# EAGLE library part RPI-CPU (library dosenet-pihat)
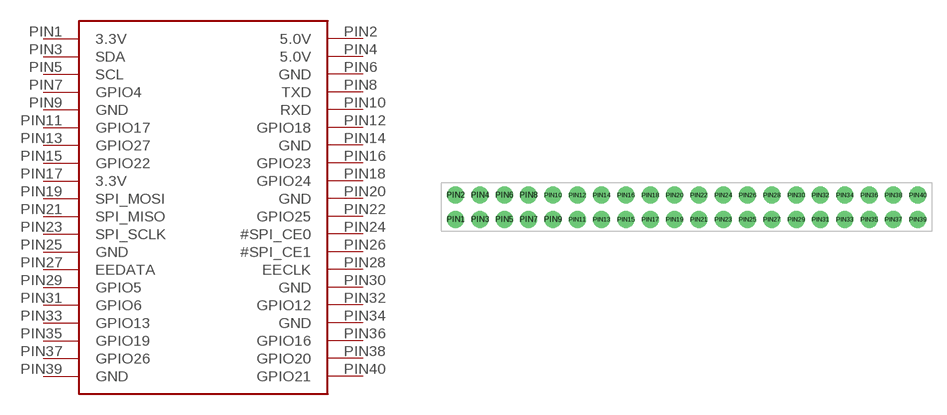
[diagram p1: symbol with the pads of RPI-CPU; footprint RPI-CPU]

Designator prefix -

## RPI-CPU  [RPI-CPU]
PIN1  3.3V
PIN2  5.0V
PIN3  SDA
PIN4  5.0V
PIN5  SCL
PIN6  GND
PIN7  GPIO4
PIN8  TXD
PIN9  GND
PIN10  RXD
PIN11  GPIO17
PIN12  GPIO18
PIN13  GPIO27
PIN14  GND
PIN15  GPIO22
PIN16  GPIO23
PIN17  3.3V
PIN18  GPIO24
PIN19  SPI_MOSI
PIN20  GND
PIN21  SPI_MISO
PIN22  GPIO25
PIN23  SPI_SCLK
PIN24  #SPI_CE0
PIN25  GND
PIN26  #SPI_CE1
PIN27  EEDATA
PIN28  EECLK
PIN29  GPIO5
PIN30  GND
PIN31  GPIO6
PIN32  GPIO12
PIN33  GPIO13
PIN34  GND
PIN35  GPIO19
PIN36  GPIO16
PIN37  GPIO26
PIN38  GPIO20
PIN39  GND
PIN40  GPIO21

## Footprint RPI-CPU (pad centres in mm)
drill 1.02 pad 1.778: PIN1 0,0; PIN2 0,2.54; PIN3 2.54,0; PIN4 2.54,2.54; PIN5 5.08,0; PIN6 5.08,2.54; PIN7 7.62,0; PIN8 7.62,2.54; PIN9 10.16,0; PIN10 10.16,2.54; PIN11 12.7,0; PIN12 12.7,2.54; PIN13 15.24,0; PIN14 15.24,2.54; PIN15 17.78,0; PIN16 17.78,2.54; PIN17 20.32,0; PIN18 20.32,2.54; PIN19 22.86,0; PIN20 22.86,2.54; PIN21 25.4,0; PIN22 25.4,2.54; PIN23 27.94,0; PIN24 27.94,2.54; PIN25 30.48,0; PIN26 30.48,2.54; PIN27 33.02,0; PIN28 33.02,2.54; PIN29 35.56,0; PIN30 35.56,2.54; PIN31 38.1,0; PIN32 38.1,2.54; PIN33 40.64,0; PIN34 40.64,2.54; PIN35 43.18,0; PIN36 43.18,2.54; PIN37 45.72,0; PIN38 45.72,2.54; PIN39 48.26,0; PIN40 48.26,2.54